# Altium footprint library XCVR_SE878K3-A.PcbLib: 1 footprints
Each footprint in its own frame and in the unit in brackets; x right, y up, seen from the top. Pads: shape width x height; smd on the part's side, far side on the other; paste and mask are expansions set on the pad; w line width, h text height; cw(c..) or ccw(c..) is an arc to the next point about the centre after c.
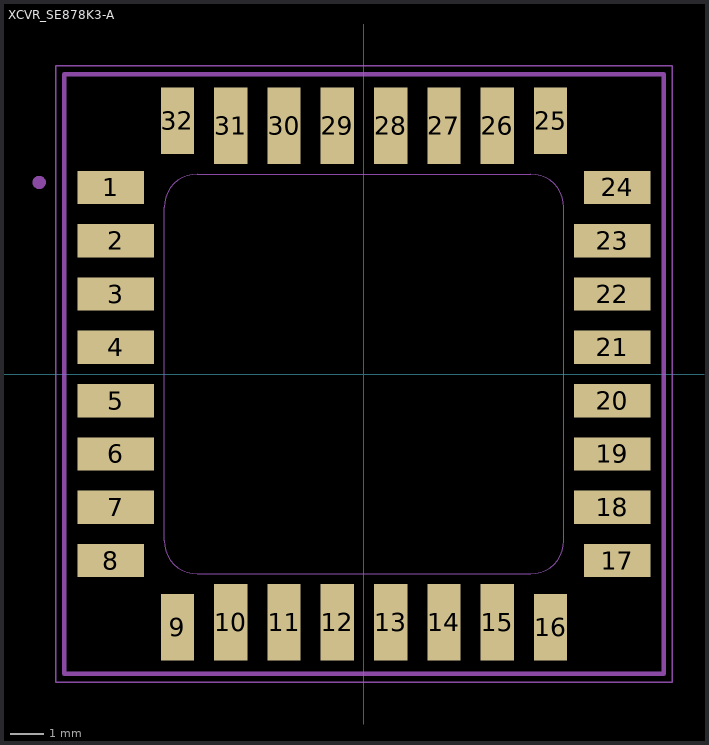
[diagram p0: the footprint, top view; thin cyan lines are the x and y axes]

## XCVR_SE878K3-A [mm]
height 6.35
pads (32):
  rect 2x1 smd mask+0.1: 1(-7.6,5.6) 8(-7.6,-5.6) 17(7.6,-5.6) 24(7.6,5.6)
  rect 2.3x1 smd mask+0.1: 2(-7.45,4) 3(-7.45,2.4) 4(-7.45,0.8) 5(-7.45,-0.8) 6(-7.45,-2.4) 7(-7.45,-4) 18(7.45,-4) 19(7.45,-2.4) 20(7.45,-0.8) 21(7.45,0.8) 22(7.45,2.4) 23(7.45,4)
  rect 1x2 smd mask+0.1: 9(-5.6,-7.6) 16(5.6,-7.6) 25(5.6,7.6) 32(-5.6,7.6)
  rect 1x2.3 smd mask+0.1: 10(-4,-7.45) 11(-2.4,-7.45) 12(-0.8,-7.45) 13(0.8,-7.45) 14(2.4,-7.45) 15(4,-7.45) 26(4,7.45) 27(2.4,7.45) 28(0.8,7.45) 29(-0.8,7.45) 30(-2.4,7.45) 31(-4,7.45)
Mechanical 1:
  lines w0: -6,-5 ccw(c-5,-5) -5,-6 5,-6 ccw(c5,-5) 6,-5 6,5 ccw(c5,5) 5,6 -5,6 ccw(c-5,5) -6,5 -6,-5
Mechanical 13:
  circle w0.2: c-9.75,5.75 r0.1
  lines w0.127: -9,-9 -9,9 9,9 9,-9 -9,-9
Mechanical 15:
  lines w0.05: -9.25,-9.25 -9.25,9.25 9.25,9.25 9.25,-9.25 -9.25,-9.25
3D body "step_temp.STEP": height 6.2, standoff 0, extent -9,-9 9,9